# EAGLE library part PA_LEO_BRD (library PatternAgents-Boards)
PatternAgents Leo Shield Pattern Source LBR : http://www.patternagents.com Github : https://github.com/patternagents License : http://creativecommons.org/licenses/by-sa/4.0/ (Creative Commons 4.0) THIS SOFTWARE IS PROVIDED BY THE CONTRIBUTORS "AS IS" AND WITHOUT ANY EXPRESS OR IMPLIED WARRANTIES, INCLUDING, BUT NOT LIMITED TO, THE IMPLIED WARRANTIES OF MERCHANTABILITY AND FITNESS FOR A PARTICULAR PURPOSE ARE DISCLAIMED. IN NO EVENT SHALL THE COPYRIGHT OWNER OR CONTRIBUTORS BE LIABLE FOR ANY DIRECT, INDIRECT, INCIDENTAL, SPECIAL, EXEMPLARY, OR CONSEQUENTIAL DAMAGES (INCLUDING, BUT NOT LIMITED TO, PROCUREMENT OF SUBSTITUTE GOODS OR SERVICES; LOSS OF USE, DATA, OR PROFITS; OR BUSINESS INTERRUPTION) HOWEVER CAUSED AND ON ANY THEORY OF LIABILITY, WHETHER IN CONTRACT, STRICT LIABILITY, OR TORT (INCLUDING NEGLIGENCE OR OTHERWISE) ARISING IN ANY WAY OUT OF THE USE OF THIS SOFTWARE, EVEN IF ADVISED OF THE POSSIBILITY OF SUCH DAMAGE.
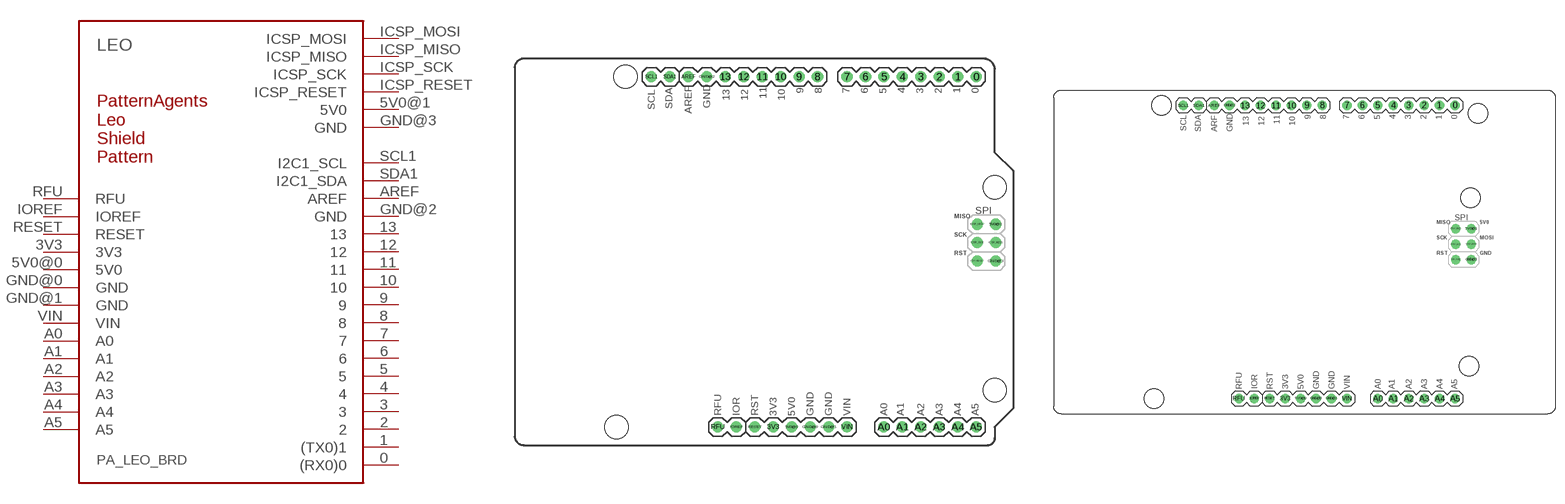
[diagram p1: symbol with the pads of PA_LEO; footprints PA_LEO, PA_LEO_MED]

Designator prefix LEO

## PA_LEO_BRD  [PA_LEO]
0  (RX0)0
1  (TX0)1
2  2
3  3
3V3  3V3
4  4
5  5
5V0@0  5V0
5V0@1  5V0  pwr
6  6
7  7
8  8
9  9
10  10
11  11
12  12
13  13
A0  A0
A1  A1
A2  A2
A3  A3
A4  A4
A5  A5
AREF  AREF
GND@0  GND
GND@1  GND
GND@2  GND
GND@3  GND  pwr
ICSP_MISO  ICSP_MISO
ICSP_MOSI  ICSP_MOSI
ICSP_RESET  ICSP_RESET
ICSP_SCK  ICSP_SCK
IOREF  IOREF  out
RESET  RESET
RFU  RFU  pwr
SCL1  I2C1_SCL
SDA1  I2C1_SDA
VIN  VIN

## PA_LEO_BRD_MED  [PA_LEO_MED]
Pads as for PA_LEO

## PA_LEO_BRD_LRG  [PA_LEO_LRG]
Pads as for PA_LEO

## PA_LEO_BRD_MEDW  [PA_LEO_MEDW]
Pads as for PA_LEO

## PA_LEO_BRD_NO_DIM  [PA_LEO_NO_DIM]
Pads as for PA_LEO

## Footprint PA_LEO (pad centres in mm)
PatternAgents Leo Shield Pattern Source LBR : http://www.patternagents.com Github : https://github.com/patternagents License : http://creativecommons.org/licenses/by-sa/4.0/ (Creative Commons 4.0) THIS SOFTWARE IS PROVIDED BY THE CONTRIBUTORS "AS IS" AND WITHOUT ANY EXPRESS OR IMPLIED WARRANTIES, INCLUDING, BUT NOT LIMITED TO, THE IMPLIED WARRANTIES OF MERCHANTABILITY AND FITNESS FOR A PARTICULAR PURPOSE ARE DISCLAIMED. IN NO EVENT SHALL THE COPYRIGHT OWNER OR CONTRIBUTORS BE LIABLE FOR ANY DIRECT, INDIRECT, INCIDENTAL, SPECIAL, EXEMPLARY, OR CONSEQUENTIAL DAMAGES (INCLUDING, BUT NOT LIMITED TO, PROCUREMENT OF SUBSTITUTE GOODS OR SERVICES; LOSS OF USE, DATA, OR PROFITS; OR BUSINESS INTERRUPTION) HOWEVER CAUSED AND ON ANY THEORY OF LIABILITY, WHETHER IN CONTRACT, STRICT LIABILITY, OR TORT (INCLUDING NEGLIGENCE OR OTHERWISE) ARISING IN ANY WAY OUT OF THE USE OF THIS SOFTWARE, EVEN IF ADVISED OF THE POSSIBILITY OF SUCH DAMAGE.
drill 1.016: 0 63.5,50.8; 1 60.96,50.8; 2 58.42,50.8; 3 55.88,50.8; 3V3 35.56,2.54; 4 53.34,50.8; 5 50.8,50.8; 5V0@0 38.1,2.54; 5V0@1 66.167,30.48; 6 48.26,50.8; 7 45.72,50.8; 8 41.656,50.8; 9 39.116,50.8; 10 36.576,50.8; 11 34.036,50.8; 12 31.496,50.8; 13 28.956,50.8; A0 50.8,2.54; A1 53.34,2.54; A2 55.88,2.54; A3 58.42,2.54; A4 60.96,2.54; A5 63.5,2.54; AREF 23.876,50.8; GND@0 40.64,2.54; GND@1 43.18,2.54; GND@2 26.416,50.8; GND@3 66.167,25.4; ICSP_MISO 63.627,30.48; ICSP_MOSI 66.167,27.94; ICSP_RESET 63.627,25.4; ICSP_SCK 63.627,27.94; IOREF 30.48,2.54; RESET 33.02,2.54; RFU 27.94,2.54; SCL1 18.796,50.8; SDA1 21.336,50.8; VIN 45.72,2.54
hole 3.2 at 15.24,50.8
hole 3.2 at 13.97,2.54
hole 3.2 at 66.04,35.56
hole 3.2 at 66.04,7.62

## Footprint PA_LEO_MED (pad centres in mm)
PatternAgents Leo (Medium) Shield Pattern Source LBR : http://www.patternagents.com Github : https://github.com/patternagents License : http://creativecommons.org/licenses/by-sa/4.0/ (Creative Commons 4.0) THIS SOFTWARE IS PROVIDED BY THE CONTRIBUTORS "AS IS" AND WITHOUT ANY EXPRESS OR IMPLIED WARRANTIES, INCLUDING, BUT NOT LIMITED TO, THE IMPLIED WARRANTIES OF MERCHANTABILITY AND FITNESS FOR A PARTICULAR PURPOSE ARE DISCLAIMED. IN NO EVENT SHALL THE COPYRIGHT OWNER OR CONTRIBUTORS BE LIABLE FOR ANY DIRECT, INDIRECT, INCIDENTAL, SPECIAL, EXEMPLARY, OR CONSEQUENTIAL DAMAGES (INCLUDING, BUT NOT LIMITED TO, PROCUREMENT OF SUBSTITUTE GOODS OR SERVICES; LOSS OF USE, DATA, OR PROFITS; OR BUSINESS INTERRUPTION) HOWEVER CAUSED AND ON ANY THEORY OF LIABILITY, WHETHER IN CONTRACT, STRICT LIABILITY, OR TORT (INCLUDING NEGLIGENCE OR OTHERWISE) ARISING IN ANY WAY OUT OF THE USE OF THIS SOFTWARE, EVEN IF ADVISED OF THE POSSIBILITY OF SUCH DAMAGE.
drill 1.016: 0 66.04,50.8; 1 63.5,50.8; 2 60.96,50.8; 3 58.42,50.8; 3V3 38.1,2.54; 4 55.88,50.8; 5 53.34,50.8; 5V0@0 40.64,2.54; 5V0@1 68.707,30.48; 6 50.8,50.8; 7 48.26,50.8; 8 44.196,50.8; 9 41.656,50.8; 10 39.116,50.8; 11 36.576,50.8; 12 34.036,50.8; 13 31.496,50.8; A0 53.34,2.54; A1 55.88,2.54; A2 58.42,2.54; A3 60.96,2.54; A4 63.5,2.54; A5 66.04,2.54; AREF 26.416,50.8; GND@0 43.18,2.54; GND@1 45.72,2.54; GND@2 28.956,50.8; GND@3 68.707,25.4; ICSP_MISO 66.167,30.48; ICSP_MOSI 68.707,27.94; ICSP_RESET 66.167,25.4; ICSP_SCK 66.167,27.94; IOREF 33.02,2.54; RESET 35.56,2.54; RFU 30.48,2.54; SCL1 21.336,50.8; SDA1 23.876,50.8; VIN 48.26,2.54
hole 3.2 at 17.78,50.8
hole 3.2 at 16.51,2.54
hole 3.2 at 68.326,7.874
hole 3.2 at 68.58,35.56
hole 3.2 at 69.85,49.53

## Footprint PA_LEO_LRG (pad centres in mm)
PatternAgents Leo (Large) Shield Pattern Source LBR : http://www.patternagents.com Github : https://github.com/patternagents License : http://creativecommons.org/licenses/by-sa/4.0/ (Creative Commons 4.0) THIS SOFTWARE IS PROVIDED BY THE CONTRIBUTORS "AS IS" AND WITHOUT ANY EXPRESS OR IMPLIED WARRANTIES, INCLUDING, BUT NOT LIMITED TO, THE IMPLIED WARRANTIES OF MERCHANTABILITY AND FITNESS FOR A PARTICULAR PURPOSE ARE DISCLAIMED. IN NO EVENT SHALL THE COPYRIGHT OWNER OR CONTRIBUTORS BE LIABLE FOR ANY DIRECT, INDIRECT, INCIDENTAL, SPECIAL, EXEMPLARY, OR CONSEQUENTIAL DAMAGES (INCLUDING, BUT NOT LIMITED TO, PROCUREMENT OF SUBSTITUTE GOODS OR SERVICES; LOSS OF USE, DATA, OR PROFITS; OR BUSINESS INTERRUPTION) HOWEVER CAUSED AND ON ANY THEORY OF LIABILITY, WHETHER IN CONTRACT, STRICT LIABILITY, OR TORT (INCLUDING NEGLIGENCE OR OTHERWISE) ARISING IN ANY WAY OUT OF THE USE OF THIS SOFTWARE, EVEN IF ADVISED OF THE POSSIBILITY OF SUCH DAMAGE.
drill 1.016: 0 66.04,50.8; 1 63.5,50.8; 2 60.96,50.8; 3 58.42,50.8; 3V3 38.1,2.54; 4 55.88,50.8; 5 53.34,50.8; 5V0@0 40.64,2.54; 5V0@1 68.707,30.48; 6 50.8,50.8; 7 48.26,50.8; 8 44.196,50.8; 9 41.656,50.8; 10 39.116,50.8; 11 36.576,50.8; 12 34.036,50.8; 13 31.496,50.8; A0 53.34,2.54; A1 55.88,2.54; A2 58.42,2.54; A3 60.96,2.54; A4 63.5,2.54; A5 66.04,2.54; AREF 26.416,50.8; GND@0 43.18,2.54; GND@1 45.72,2.54; GND@2 28.956,50.8; GND@3 68.707,25.4; ICSP_MISO 66.167,30.48; ICSP_MOSI 68.707,27.94; ICSP_RESET 66.167,25.4; ICSP_SCK 66.167,27.94; IOREF 33.02,2.54; RESET 35.56,2.54; RFU 30.48,2.54; SCL1 21.336,50.8; SDA1 23.876,50.8; VIN 48.26,2.54
hole 3.2 at 17.78,50.8
hole 3.2 at 16.51,2.54
hole 3.2 at 68.326,7.874
hole 3.2 at 68.58,35.56
hole 3.2 at 69.85,49.53
hole 3.2 at 90.17,50.8
hole 3.2 at 96.52,2.54

## Footprint PA_LEO_MEDW (pad centres in mm)
PatternAgents Leo (Medium/Wide) Shield Pattern Source LBR : http://www.patternagents.com Github : https://github.com/patternagents License : http://creativecommons.org/licenses/by-sa/4.0/ (Creative Commons 4.0) THIS SOFTWARE IS PROVIDED BY THE CONTRIBUTORS "AS IS" AND WITHOUT ANY EXPRESS OR IMPLIED WARRANTIES, INCLUDING, BUT NOT LIMITED TO, THE IMPLIED WARRANTIES OF MERCHANTABILITY AND FITNESS FOR A PARTICULAR PURPOSE ARE DISCLAIMED. IN NO EVENT SHALL THE COPYRIGHT OWNER OR CONTRIBUTORS BE LIABLE FOR ANY DIRECT, INDIRECT, INCIDENTAL, SPECIAL, EXEMPLARY, OR CONSEQUENTIAL DAMAGES (INCLUDING, BUT NOT LIMITED TO, PROCUREMENT OF SUBSTITUTE GOODS OR SERVICES; LOSS OF USE, DATA, OR PROFITS; OR BUSINESS INTERRUPTION) HOWEVER CAUSED AND ON ANY THEORY OF LIABILITY, WHETHER IN CONTRACT, STRICT LIABILITY, OR TORT (INCLUDING NEGLIGENCE OR OTHERWISE) ARISING IN ANY WAY OUT OF THE USE OF THIS SOFTWARE, EVEN IF ADVISED OF THE POSSIBILITY OF SUCH DAMAGE.
drill 1.016: 0 66.04,52.07; 1 63.5,52.07; 2 60.96,52.07; 3 58.42,52.07; 3V3 38.1,3.81; 4 55.88,52.07; 5 53.34,52.07; 5V0@0 40.64,3.81; 5V0@1 68.707,31.75; 6 50.8,52.07; 7 48.26,52.07; 8 44.196,52.07; 9 41.656,52.07; 10 39.116,52.07; 11 36.576,52.07; 12 34.036,52.07; 13 31.496,52.07; A0 53.34,3.81; A1 55.88,3.81; A2 58.42,3.81; A3 60.96,3.81; A4 63.5,3.81; A5 66.04,3.81; AREF 26.416,52.07; GND@0 43.18,3.81; GND@1 45.72,3.81; GND@2 28.956,52.07; GND@3 68.707,26.67; ICSP_MISO 66.167,31.75; ICSP_MOSI 68.707,29.21; ICSP_RESET 66.167,26.67; ICSP_SCK 66.167,29.21; IOREF 33.02,3.81; RESET 35.56,3.81; RFU 30.48,3.81; SCL1 21.336,52.07; SDA1 23.876,52.07; VIN 48.26,3.81
hole 3.2 at 17.78,52.07
hole 3.2 at 16.51,3.81
hole 3.2 at 68.326,9.144
hole 3.2 at 68.58,36.83
hole 3.2 at 69.85,50.8

## Footprint PA_LEO_NO_DIM (pad centres in mm)
PatternAgents Leo Shield Pattern (No Dimension Layer) Use this pattern when you want to embed an Arduino compatible shield pattern inside a larger board outline. Source LBR : http://www.patternagents.com Github : https://github.com/patternagents License : http://creativecommons.org/licenses/by-sa/4.0/ (Creative Commons 4.0) THIS SOFTWARE IS PROVIDED BY THE CONTRIBUTORS "AS IS" AND WITHOUT ANY EXPRESS OR IMPLIED WARRANTIES, INCLUDING, BUT NOT LIMITED TO, THE IMPLIED WARRANTIES OF MERCHANTABILITY AND FITNESS FOR A PARTICULAR PURPOSE ARE DISCLAIMED. IN NO EVENT SHALL THE COPYRIGHT OWNER OR CONTRIBUTORS BE LIABLE FOR ANY DIRECT, INDIRECT, INCIDENTAL, SPECIAL, EXEMPLARY, OR CONSEQUENTIAL DAMAGES (INCLUDING, BUT NOT LIMITED TO, PROCUREMENT OF SUBSTITUTE GOODS OR SERVICES; LOSS OF USE, DATA, OR PROFITS; OR BUSINESS INTERRUPTION) HOWEVER CAUSED AND ON ANY THEORY OF LIABILITY, WHETHER IN CONTRACT, STRICT LIABILITY, OR TORT (INCLUDING NEGLIGENCE OR OTHERWISE) ARISING IN ANY WAY OUT OF THE USE OF THIS SOFTWARE, EVEN IF ADVISED OF THE POSSIBILITY OF SUCH DAMAGE.
drill 1.016: 0 63.5,50.8; 1 60.96,50.8; 2 58.42,50.8; 3 55.88,50.8; 3V3 35.56,2.54; 4 53.34,50.8; 5 50.8,50.8; 5V0@0 38.1,2.54; 5V0@1 66.167,30.48; 6 48.26,50.8; 7 45.72,50.8; 8 41.656,50.8; 9 39.116,50.8; 10 36.576,50.8; 11 34.036,50.8; 12 31.496,50.8; 13 28.956,50.8; A0 50.8,2.54; A1 53.34,2.54; A2 55.88,2.54; A3 58.42,2.54; A4 60.96,2.54; A5 63.5,2.54; AREF 23.876,50.8; GND@0 40.64,2.54; GND@1 43.18,2.54; GND@2 26.416,50.8; GND@3 66.167,25.4; ICSP_MISO 63.627,30.48; ICSP_MOSI 66.167,27.94; ICSP_RESET 63.627,25.4; ICSP_SCK 63.627,27.94; IOREF 30.48,2.54; RESET 33.02,2.54; RFU 27.94,2.54; SCL1 18.796,50.8; SDA1 21.336,50.8; VIN 45.72,2.54
hole 3.2 at 15.24,50.8
hole 3.2 at 13.97,2.54
hole 3.2 at 66.04,35.56
hole 3.2 at 66.04,7.62